# EAGLE library part 61304011021 (library Board_to_Board_Connectors_rev15d)
WR-PHD 2.54mm Angled Pin Header, 40 Pins =>Con_BTB_PHD_2.54_1_THT_61304011021 <http://katalog.we-online.de/media/images/eican/Con_BTB_PHD_2.54_1_THT_61303211021_pf2.jpg> Details see: http://katalog.we-online.de/en/em/613_0xx_110_21 Created 2014-05-29, Karrer Zheng 2014 (C) Würth Elektronik
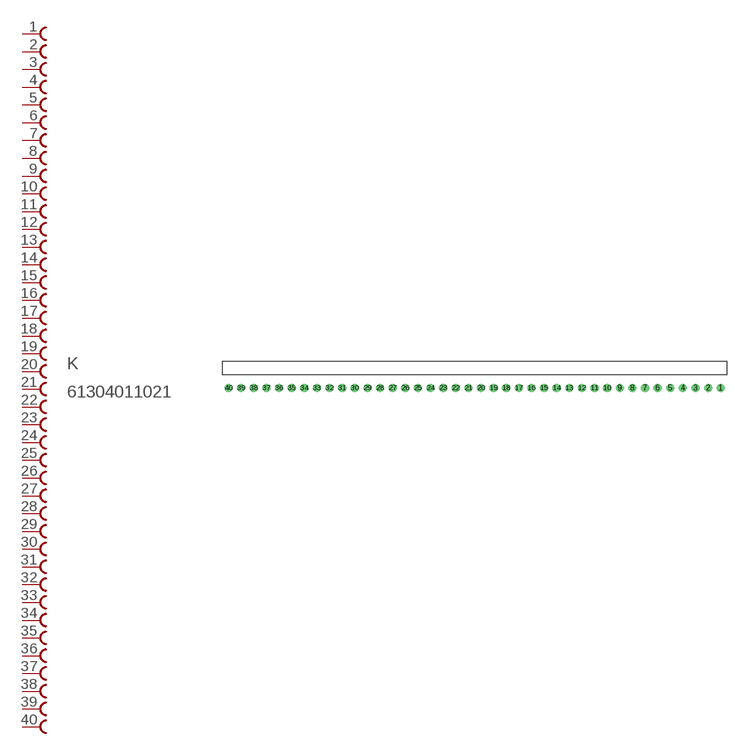
[diagram p52: symbol with the pads of 61304011021; footprint 61304011021]

Designator prefix K

## 61304011021  [61304011021]
1  1  pas
2  2  pas
3  3  pas
4  4  pas
5  5  pas
6  6  pas
7  7  pas
8  8  pas
9  9  pas
10  10  pas
11  11  pas
12  12  pas
13  13  pas
14  14  pas
15  15  pas
16  16  pas
17  17  pas
18  18  pas
19  19  pas
20  20  pas
21  21  pas
22  22  pas
23  23  pas
24  24  pas
25  25  pas
26  26  pas
27  27  pas
28  28  pas
29  29  pas
30  30  pas
31  31  pas
32  32  pas
33  33  pas
34  34  pas
35  35  pas
36  36  pas
37  37  pas
38  38  pas
39  39  pas
40  40  pas

## Footprint 61304011021 (pad centres in mm)
WR-PHD 2.54mm Angled Pin Header, 40 Pins
drill 1.1: 1 49.53,0; 2 46.99,0; 3 44.45,0; 4 41.91,0; 5 39.37,0; 6 36.83,0; 7 34.29,0; 8 31.75,0; 9 29.21,0; 10 26.67,0; 11 24.13,0; 12 21.59,0; 13 19.05,0; 14 16.51,0; 15 13.97,0; 16 11.43,0; 17 8.89,0; 18 6.35,0; 19 3.81,0; 20 1.27,0; 21 -1.27,0; 22 -3.81,0; 23 -6.35,0; 24 -8.89,0; 25 -11.43,0; 26 -13.97,0; 27 -16.51,0; 28 -19.05,0; 29 -21.59,0; 30 -24.13,0; 31 -26.67,0; 32 -29.21,0; 33 -31.75,0; 34 -34.29,0; 35 -36.83,0; 36 -39.37,0; 37 -41.91,0; 38 -44.45,0; 39 -46.99,0; 40 -49.53,0